# EAGLE library part AVR128DA48 (library ds_ic_mcu)
The AVR128DA48 microcontroller is part of the AVR DA family featuring the AVR processor with hardware multiplier - running at up to 24 MHz and with 128 KB Flash, 16 KB SRAM and 512 bytes of EEPROM in 48-pin packages. The AVR128DA48 will be available in TQFP and VQFN package options. The AVR128DA48 product supports as many as 32 self-capacitance and 256 mutual capacitance touch channels, which makes the AVR DA the perfect choice for human interface applications where multiple capacitive touch keys, sliders, wheels or 2D surface are required. Functional Safety: This product is recommended for safety critical applications targeting both industrial and automotive products-
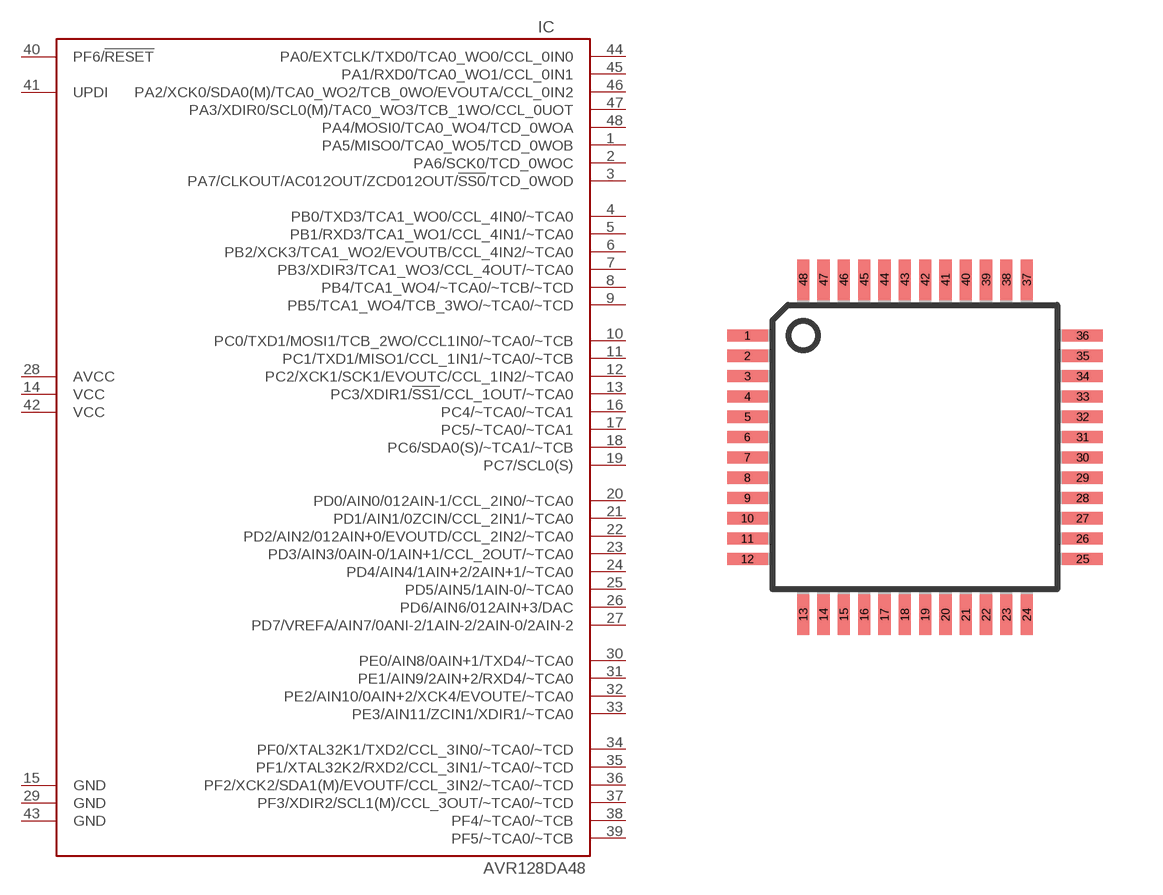
[diagram p9: symbol with the pads of TQFP48; footprint TQFP48]

Designator prefix IC

## AVR128DA4848  [TQFP48]
1  PA5/MISO0/TCA0_WO5/TCD_0WOB
2  PA6/SCK0/TCD_0WOC
3  PA7/CLKOUT/AC012OUT/ZCD012OUT/!SS0!/TCD_0WOD
4  PB0/TXD3/TCA1_WO0/CCL_4IN0/~TCA0
5  PB1/RXD3/TCA1_WO1/CCL_4IN1/~TCA0
6  PB2/XCK3/TCA1_WO2/EVOUTB/CCL_4IN2/~TCA0
7  PB3/XDIR3/TCA1_WO3/CCL_4OUT/~TCA0
8  PB4/TCA1_WO4/~TCA0/~TCB/~TCD
9  PB5/TCA1_WO4/TCB_3WO/~TCA0/~TCD
10  PC0/TXD1/MOSI1/TCB_2WO/CCL1IN0/~TCA0/~TCB
11  PC1/TXD1/MISO1/CCL_1IN1/~TCA0/~TCB
12  PC2/XCK1/SCK1/EVOUTC/CCL_1IN2/~TCA0
13  PC3/XDIR1/!SS1!/CCL_1OUT/~TCA0
14  VCC  pwr
15  GND  pwr
16  PC4/~TCA0/~TCA1
17  PC5/~TCA0/~TCA1
18  PC6/SDA0(S)/~TCA1/~TCB
19  PC7/SCL0(S)
20  PD0/AIN0/012AIN-1/CCL_2IN0/~TCA0
21  PD1/AIN1/0ZCIN/CCL_2IN1/~TCA0
22  PD2/AIN2/012AIN+0/EVOUTD/CCL_2IN2/~TCA0
23  PD3/AIN3/0AIN-0/1AIN+1/CCL_2OUT/~TCA0
24  PD4/AIN4/1AIN+2/2AIN+1/~TCA0
25  PD5/AIN5/1AIN-0/~TCA0
26  PD6/AIN6/012AIN+3/DAC
27  PD7/VREFA/AIN7/0ANI-2/1AIN-2/2AIN-0/2AIN-2
28  AVCC  pwr
29  GND  pwr
30  PE0/AIN8/0AIN+1/TXD4/~TCA0
31  PE1/AIN9/2AIN+2/RXD4/~TCA0
32  PE2/AIN10/0AIN+2/XCK4/EVOUTE/~TCA0
33  PE3/AIN11/ZCIN1/XDIR1/~TCA0
34  PF0/XTAL32K1/TXD2/CCL_3IN0/~TCA0/~TCD
35  PF1/XTAL32K2/RXD2/CCL_3IN1/~TCA0/~TCD
36  PF2/XCK2/SDA1(M)/EVOUTF/CCL_3IN2/~TCA0/~TCD
37  PF3/XDIR2/SCL1(M)/CCL_3OUT/~TCA0/~TCD
38  PF4/~TCA0/~TCB
39  PF5/~TCA0/~TCB
40  PF6/!RESET
41  UPDI
42  VCC  pwr
43  GND  pwr
44  PA0/EXTCLK/TXD0/TCA0_WO0/CCL_0IN0
45  PA1/RXD0/TCA0_WO1/CCL_0IN1
46  PA2/XCK0/SDA0(M)/TCA0_WO2/TCB_0WO/EVOUTA/CCL_0IN2
47  PA3/XDIR0/SCL0(M)/TAC0_WO3/TCB_1WO/CCL_0UOT
48  PA4/MOSI0/TCA0_WO4/TCD_0WOA

## Footprint TQFP48 (pad centres in mm)
smd 1.016 x 0.305: 1 -4.191,2.794; 2 -4.191,2.286; 3 -4.191,1.778; 4 -4.191,1.27; 5 -4.191,0.762; 6 -4.191,0.254; 7 -4.191,-0.254; 8 -4.191,-0.762; 9 -4.191,-1.27; 10 -4.191,-1.778; 11 -4.191,-2.286; 12 -4.191,-2.794; 25 4.191,-2.794; 26 4.191,-2.286; 27 4.191,-1.778; 28 4.191,-1.27; 29 4.191,-0.762; 30 4.191,-0.254; 31 4.191,0.254; 32 4.191,0.762; 33 4.191,1.27; 34 4.191,1.778; 35 4.191,2.286; 36 4.191,2.794
smd 0.305 x 1.016: 13 -2.794,-4.191; 14 -2.286,-4.191; 15 -1.778,-4.191; 16 -1.27,-4.191; 17 -0.762,-4.191; 18 -0.254,-4.191; 19 0.254,-4.191; 20 0.762,-4.191; 21 1.27,-4.191; 22 1.778,-4.191; 23 2.286,-4.191; 24 2.794,-4.191; 37 2.794,4.191; 38 2.286,4.191; 39 1.778,4.191; 40 1.27,4.191; 41 0.762,4.191; 42 0.254,4.191; 43 -0.254,4.191; 44 -0.762,4.191; 45 -1.27,4.191; 46 -1.778,4.191; 47 -2.286,4.191; 48 -2.794,4.191